# EAGLE library part TC7662BCOA (library SamacSys_Parts)
TC7662BCOA, DC-DC Converter,, 8-Pin SOIC Source: Datasheet <http://docs-emea.rs-online.com/webdocs/0027/0900766b80027a0a.pdf>
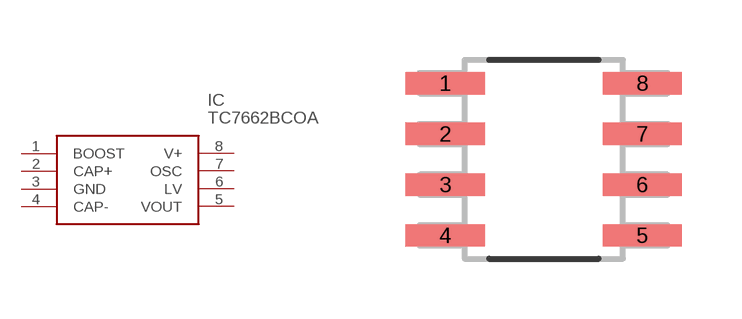
[diagram p4: symbol with the pads of SOIC127P600X175-8N; footprint SOIC127P600X175-8N]

Designator prefix IC

## TC7662BCOA (ALLIED_NUMBER: 70045794; ALLIED_PRICE-STOCK: http://www.alliedelec.com/microchip-technology-inc-tc7662bcoa/70045794/; DESCRIPTION: TC7662BCOA, DC-DC Converter,, 8-Pin SOIC; HEIGHT: 1.75mm; MANUFACTURER_NAME: Microchip; MANUFACTURER_PART_NUMBER: TC7662BCOA; MOUSER_PART_NUMBER: 579-TC7662BCOA; MOUSER_PRICE-STOCK: https://www.mouser.com/Search/Refine.aspx?Keyword=579-TC7662BCOA; RS_PART_NUMBER: 3710031; RS_PRICE-STOCK: http://uk.rs-online.com/web/p/products/3710031)  [SOIC127P600X175-8N]
1  BOOST
2  CAP+
3  GND  pwr
4  CAP-
5  VOUT  out
6  LV
7  OSC
8  V+

## Footprint SOIC127P600X175-8N (pad centres in mm)
SOIC127P600X175-8N
smd 1.981 x 0.559: 1 -2.464,1.905; 2 -2.464,0.635; 3 -2.464,-0.635; 4 -2.464,-1.905; 5 2.464,-1.905; 6 2.464,-0.635; 7 2.464,0.635; 8 2.464,1.905